# Altium footprint library Inductors.PcbLib: 1 footprints
Each footprint in its own frame and in the unit in brackets; x right, y up, seen from the top. Pads: shape width x height; smd on the part's side, far side on the other; paste and mask are expansions set on the pad; w line width, h text height; cw(c..) or ccw(c..) is an arc to the next point about the centre after c.
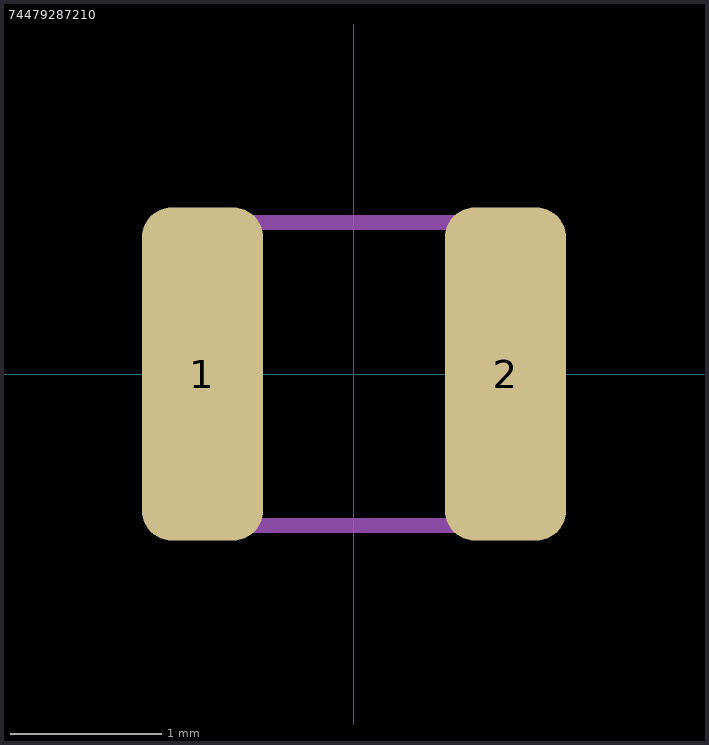
[diagram p0: the footprint, top view; thin cyan lines are the x and y axes]

## 74479287210 [mm] "WE-PMCI Power Molded Chip Inductor"
height 1
pads (2):
  rrect50% 0.8x2.2 smd: 1(-1,0) 2(1,0)
3D Top:
  lines w0.1: -1.25,-1 1.25,-1 1.25,1 -1.25,1 -1.25,-1
3D body: height 1, standoff 0, extent -1.25,-1 1.25,1